# EAGLE library part UCC28740 (library wheat)
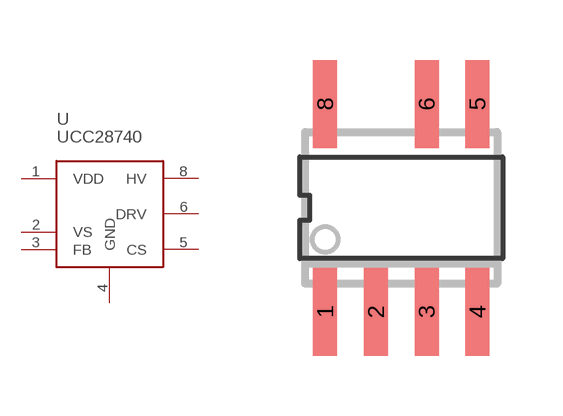
[diagram p196: symbol with the pads of SO8_7P; footprint SO8_7P]

Designator prefix U

## UCC28740D  [SO8_7P]
1  VDD  pas
2  VS  in
3  FB  in
4  GND  pas
5  CS  in
6  DRV  out
8  HV  in

## Footprint SO8_7P (pad centres in mm)
smd 0.6 x 2.2: 1 -1.905,-2.6; 2 -0.635,-2.6; 3 0.635,-2.6; 4 1.905,-2.6; 5 1.905,2.6; 6 0.635,2.6; 8 -1.905,2.6